# Altium footprint library Generic_Comp_Footprints.PcbLib: 67 footprints (part 5 of 5)
Each footprint in its own frame and in the unit in brackets; x right, y up, seen from the top. Pads: shape width x height; smd on the part's side, far side on the other; paste and mask are expansions set on the pad; w line width, h text height; cw(c..) or ccw(c..) is an arc to the next point about the centre after c.
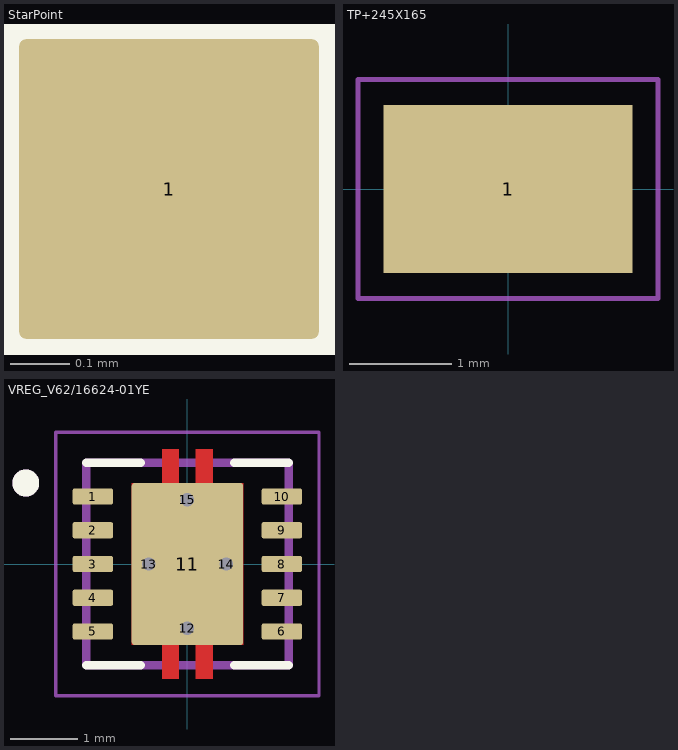
[diagram p4: the footprints below, top view; thin cyan lines are the x and y axes]

## StarPoint [mil] "Star point for definition of starburst topology"
height 1
pads (1):
  rrect5% 20x20 smd paste-20: 1(0,0)
Top Overlay:
  lines w7.87: -10,-10 -10,10 10,10 10,-10 -10,-10

## TP+245X165 [mm]
pads (1):
  rect 2.45x1.65 smd: 1(0,0)
Mechanical 13:
  lines w0.127: -1,-0.625 1,-0.625 1,0.625 -1,0.625 -1,-0.625
Mechanical 15:
  lines w0.05: -1.475,-1.075 -1.475,1.075 1.475,1.075 1.475,-1.075 -1.475,-1.075
3D body "step_temp.STEP": height 0.84, standoff -0.61, extent -1,-0.625 1,0.625

## VREG_V62/16624-01YE [mm]
pads (15):
  rrect25% 0.6x0.24 smd mask+0: 1(-1.4,1) 2(-1.4,0.5) 3(-1.4,0) 4(-1.4,-0.5) 5(-1.4,-1) 6(1.4,-1) 7(1.4,-0.5) 8(1.4,0) 9(1.4,0.5) 10(1.4,1)
  rrect5% 1.65x2.4 smd paste-2 mask+0: 11(0,0)
  round 0.3 hole 0.2 mask+0: 12(0,-0.95) 13(-0.575,0) 14(0.575,0) 15(0,0.95)
Top Layer:
  region: 0.375,1.2 0.825,1.2 0.825,-1.2 0.375,-1.2 0.375,-1.7 0.125,-1.7 0.125,-1.2 -0.125,-1.2 -0.125,-1.7 -0.375,-1.7 -0.375,-1.2 -0.825,-1.2 -0.825,1.2 -0.375,1.2 -0.375,1.7 -0.125,1.7 -0.125,1.2 0.125,1.2 0.125,1.7 0.375,1.7
Top Overlay:
  circle w0.2: c-2.395,1.2 r0.1
  lines w0.127: -1.5,-1.5 -0.695,-1.5 ; -1.5,1.5 -0.695,1.5 ; 0.695,-1.5 1.5,-1.5 ; 0.695,1.5 1.5,1.5
Top Paste:
  region: 0.75,0.1 -0.75,0.1 -0.75,1.16 0.75,1.16
  region: 0.75,-1.16 -0.75,-1.16 -0.75,-0.1 0.75,-0.1
  region: 0.375,1.36 0.125,1.36 0.125,1.7 0.375,1.7
  region: -0.125,1.36 -0.375,1.36 -0.375,1.7 -0.125,1.7
  region: 0.375,-1.7 0.125,-1.7 0.125,-1.36 0.375,-1.36
  region: -0.125,-1.7 -0.375,-1.7 -0.375,-1.36 -0.125,-1.36
Top Solder:
  region: 0.445,1.27 0.895,1.27 0.895,-1.27 0.445,-1.27 0.445,-1.77 0.055,-1.77 0.055,-1.27 -0.055,-1.27 -0.055,-1.77 -0.445,-1.77 -0.445,-1.27 -0.895,-1.27 -0.895,1.27 -0.445,1.27 -0.445,1.77 -0.055,1.77 -0.055,1.27 0.055,1.27 0.055,1.77 0.445,1.77
  region: 1.77,0.81 1.03,0.81 1.03,1.19 1.77,1.19
  region: 1.77,0.31 1.03,0.31 1.03,0.69 1.77,0.69
  region: 1.77,-0.19 1.03,-0.19 1.03,0.19 1.77,0.19
  region: 1.77,-0.69 1.03,-0.69 1.03,-0.31 1.77,-0.31
  region: 1.77,-1.19 1.03,-1.19 1.03,-0.81 1.77,-0.81
  region: -1.03,-1.19 -1.77,-1.19 -1.77,-0.81 -1.03,-0.81
  region: -1.03,-0.69 -1.77,-0.69 -1.77,-0.31 -1.03,-0.31
  region: -1.03,-0.19 -1.77,-0.19 -1.77,0.19 -1.03,0.19
  region: -1.03,0.31 -1.77,0.31 -1.77,0.69 -1.03,0.69
  region: -1.03,0.81 -1.77,0.81 -1.77,1.19 -1.03,1.19
Mechanical 13:
  circle w0.2: c-2.395,1.2 r0.1
  lines w0.127: -1.5,-1.5 -1.5,1.5 1.5,1.5 1.5,-1.5 -1.5,-1.5
Mechanical 15:
  lines w0.05: -1.95,-1.95 -1.95,1.95 1.95,1.95 1.95,-1.95 -1.95,-1.95
3D body "step_temp.STEP": height 1, standoff 0, extent -1.5,-1.5 1.5,1.5